# Altium footprint library MOLEX-02_90.PcbLib: 1 footprints
Each footprint in its own frame and in the unit in brackets; x right, y up, seen from the top. Pads: shape width x height; smd on the part's side, far side on the other; paste and mask are expansions set on the pad; w line width, h text height; cw(c..) or ccw(c..) is an arc to the next point about the centre after c.
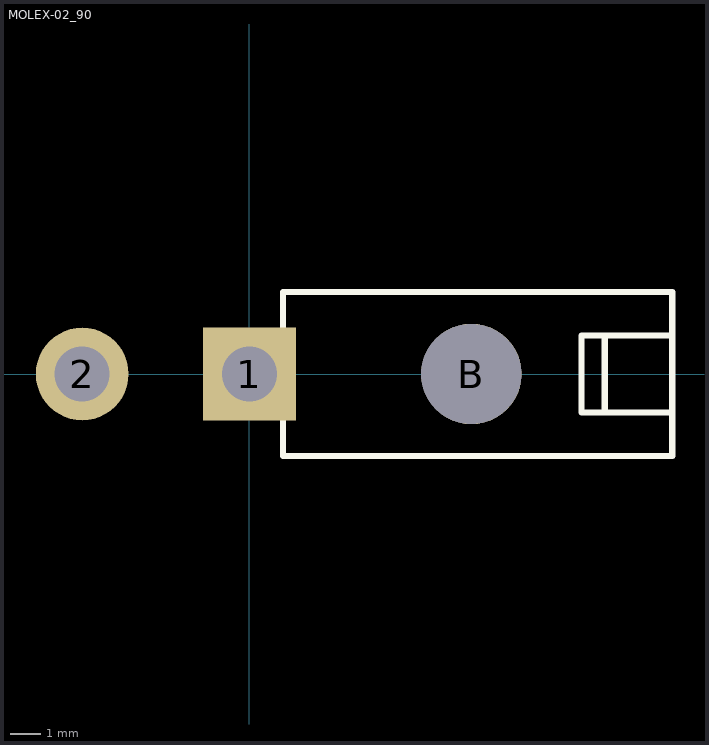
[diagram p0: the footprint, top view; thin cyan lines are the x and y axes]

## MOLEX-02_90 [mil]
pads (3):
  rect 120x120 hole 71: 1(0,0)
  round 120 hole 71: 2(-216.54,0)
  round 130 hole 130: B(287.4,0)
TopOverlay:
  lines w8: 460,-50 460,50 ; 547.24,-50 430,-50 430,50 547.24,50 ; 43.31,-106.3 547.24,-106.3 547.24,106.3 43.31,106.3 43.31,-106.3